# Altium schematic symbol library Bus_Transceivers.SchLib: 1 symbol
Pins are listed as number, name and electrical type; pins without a type are passive.

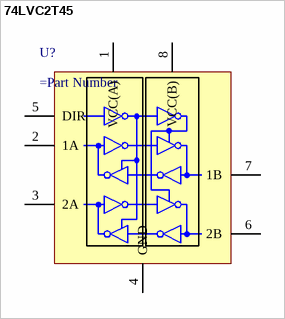
[diagram p0: symbol 74LVC2T45]

## 74LVC2T45
designator U?
pins: 1 VCC(A), 2 1A, 3 2A, 4 GND, 5 DIR, 6 2B, 7 1B, 8 VCC(B)